# Altium integrated library 750315038.IntLib: 1 symbol
Pins are listed as number, name and electrical type; pins without a type are passive.

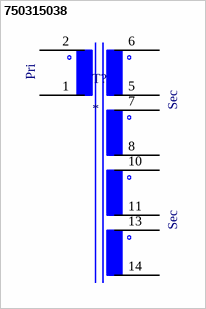
[diagram p0: symbol 750315038]

## 750315038
designator T?
Isolated Buck Converters For For DC/DC Converters SMPS Transformer 3600Vrms Isolation 250 ~ 600kHz Through Hole; MP: 750315038; MF: Wurth Electronics; Package: None; Availability: In Stock; SnapEDA_Link: https://www.snapeda.com/parts/750315038/Wurth+Electronics+Midcom/view-part/?ref=snap; Price: None; Check_prices: https://www.snapeda.com/parts/750315038/Wurth+Electronics+Midcom/view-part/?ref=eda; Purchase-URL: https://pricing.snapeda.com/search/part/750315038/?ref=eda; Value: *
footprint PQ2020_THT_V_10PIN_(6369)
pins: 1, 2, 5, 6, 7, 8, 10, 11, 13, 14
text: Pri; Sec